# EAGLE library part MCP4821 (library Microchip)
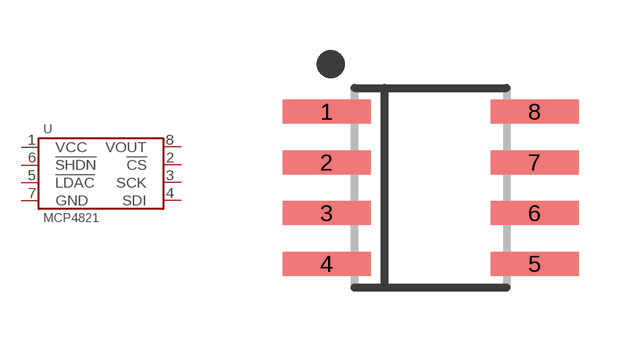
[diagram p16: symbol with the pads of SOIC-8; footprint SOIC-8]

Designator prefix U

## MCP4821-E/SN  [SOIC-8]
1  VCC
2  !CS
3  SCK
4  SDI
5  !LDAC
6  !SHDN
7  GND
8  VOUT

## Footprint SOIC-8 (pad centres in mm)
smd 2.2 x 0.6: 1 -2.6,1.905; 2 -2.6,0.635; 3 -2.6,-0.635; 4 -2.6,-1.905; 5 2.6,-1.905; 6 2.6,-0.635; 7 2.6,0.635; 8 2.6,1.905